# Altium schematic symbol library 测试点.SchLib: 5 symbols
Pins are listed as number, name and electrical type; pins without a type are passive.

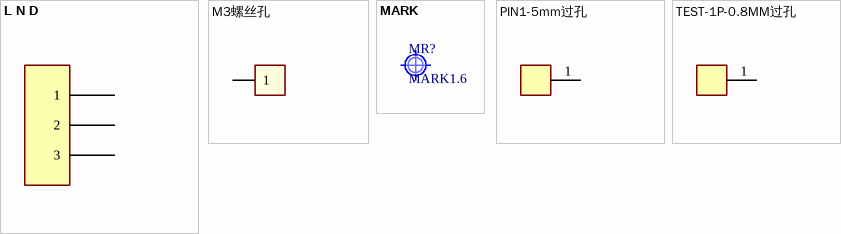
[diagram p0: symbols L N D to TEST-1P-0.8MM过孔]

## L N D
designator J?
测试用; 插件/贴片: NC; 厂家: *; 厂家型号: *; 金蝶料号: *; 工作温度: *; 值: *; 器件状态: *; ComponentLink1Description: New link; ComponentLink1URL: *
footprint 3P-5mm
pins: 1, 2, 3

## M3螺丝孔
designator J?  (net tie, no BOM)
厂家: *; 厂家型号: *; 金蝶料号: *; 工作温度: *; 插件/贴片: *; 值: *; 器件状态: *; ComponentLink1Description: New link; ComponentLink1URL: *
footprint M3 (M3铜柱)
footprint M3N (M3铜柱)
pins: 1

## MARK
designator MR?, comment MARK1.6
光学定位点; 联系下单店铺卖家 免费技术支持: 联系下单店铺卖家 免费帮你查找封装; BOM名称: 光学定位点
footprint Mark 1 (光学定位点，直径1mm)
footprint Mark 1.6 (光学定位点，直径1.6mm)

## PIN1-5mm过孔
designator J?
插件/贴片: 贴片; 器件状态: 在用
footprint PIN1-5mm
pins: 1

## TEST-1P-0.8MM过孔
designator J?  (no BOM)
厂家: *; 厂家型号: *; 金蝶料号: *; 工作温度: *; 插件/贴片: *; 值: *; 器件状态: *; ComponentLink1Description: New link; ComponentLink1URL: *
footprint TEST-1P过孔0.8mm
pins: 1